# Altium schematic symbol library Schlib2.SchLib: 172 symbols
Pins are listed as number, name and electrical type; pins without a type are passive.

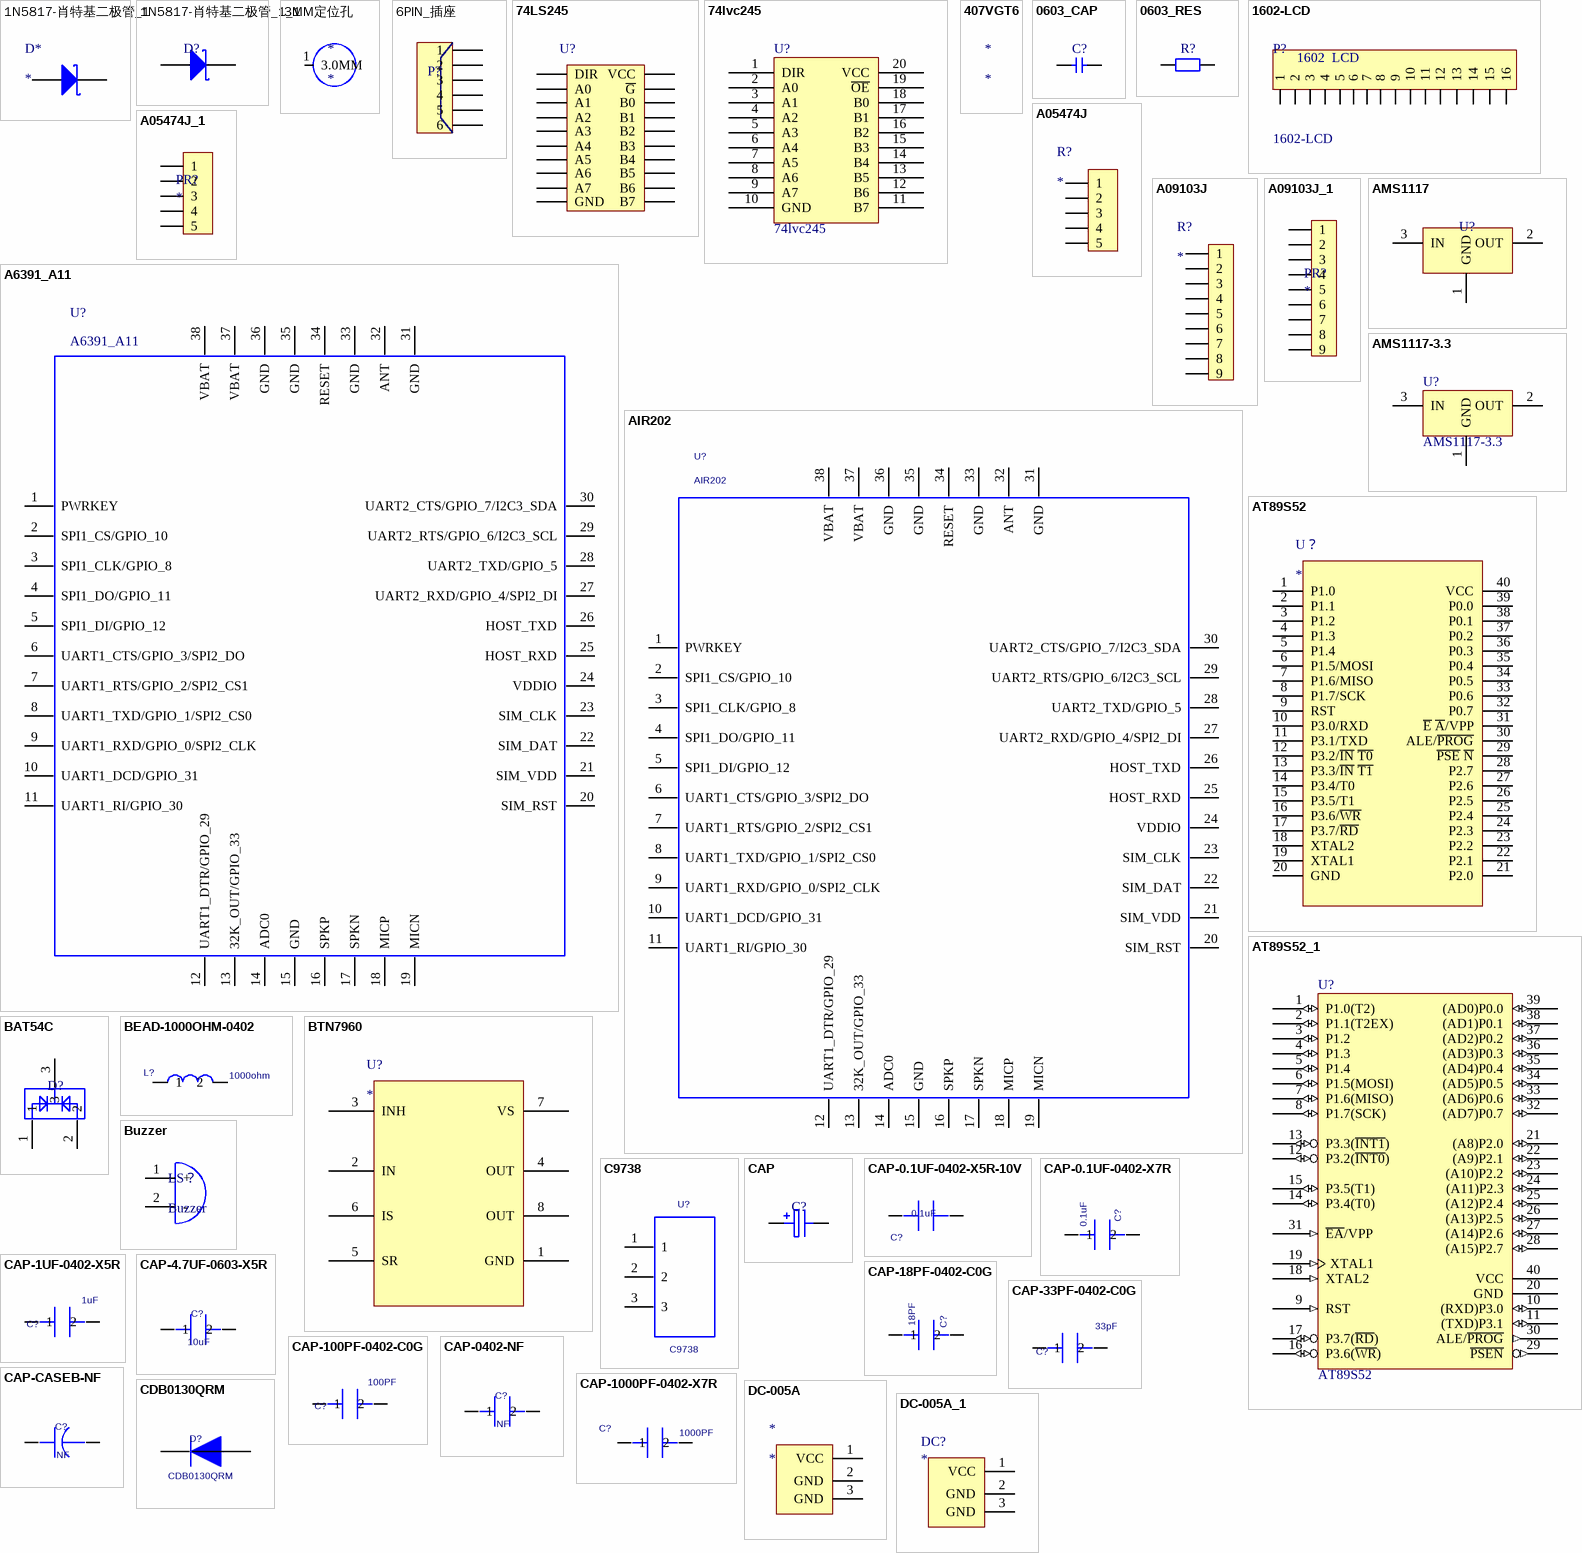
[diagram p0: symbols 1N5817-肖特基二极管_1 to DC-005A_1]

## 1N5817-肖特基二极管_1
designator D*
footprint 1N5817-肖特基二极管
footprint 3.2X1.6X1.1 (SMT LED; 2 Flat Leads)
footprint SOD123
pins: 1 A, 2 K

## 1N5817-肖特基二极管_1_1
designator D?, comment 1N5817  (value not drawn)
肖特基二极管
footprint 1N5817-肖特基二极管
pins: 1 A, 2 K

## 3MM定位孔
designator *
footprint 3MM
pins: 1 3.0MM

## 6PIN_插座
designator P?  (value not drawn)
footprint 6PIN_插座
pins: 1, 2, 3, 4, 5, 6

## 74LS245
designator U?  (value not drawn)
pins: 1 DIR, 2 A0, 3 A1, 4 A2, 5 A3, 6 A4, 7 A5, 8 A6, 9 A7, 10 GND, 11 B7, 12 B6, 13 B5, 14 B4, 15 B3, 16 B2, 17 B1, 18 B0, 19 ~{G}, 20 VCC

## 74lvc245
designator U?
8位5伏转3.3伏电平转换芯片
footprint 74LVC245 TSSOP
pins: 1 DIR, 2 A0, 3 A1, 4 A2, 5 A3, 6 A4, 7 A5, 8 A6, 9 A7, 10 GND, 11 B7, 12 B6, 13 B5, 14 B4, 15 B3, 16 B2, 17 B1, 18 B0, 19 ~{OE}, 20 VCC

## 407VGT6
designator *

## 0603_CAP
designator C?
0603
footprint 0603
pins: 1, 2

## 0603_RES
designator R?  (value not drawn)
footprint 0603
pins: 1, 2

## 1602-LCD
designator P?
Header, 16-Pin
footprint 1602-LCD (Connector; Header; 7 Position)
pins: 1, 2, 3, 4, 5, 6, 7, 8, 9, 10, 11, 12, 13, 14, 15, 16
text: 1602  LCD

## A05474J
designator R?
footprint A05474J
pins: 1, 2, 3, 4, 5

## A05474J_1
designator PR?
footprint A05474J
pins: 1, 2, 3, 4, 5

## A6391_A11
designator U?
202芯片; Geometry.Height: 2.3 MM; PCB DECAL: A6391_A11
footprint A6391_A11
pins: 1 PWRKEY, 2 SPI1_CS/GPIO_10, 3 SPI1_CLK/GPIO_8, 4 SPI1_DO/GPIO_11, 5 SPI1_DI/GPIO_12, 6 UART1_CTS/GPIO_3/SPI2_DO, 7 UART1_RTS/GPIO_2/SPI2_CS1, 8 UART1_TXD/GPIO_1/SPI2_CS0, 9 UART1_RXD/GPIO_0/SPI2_CLK, 10 UART1_DCD/GPIO_31, 11 UART1_RI/GPIO_30, 12 UART1_DTR/GPIO_29, 13 32K_OUT/GPIO_33, 14 ADC0, 15 GND, 16 SPKP, 17 SPKN, 18 MICP, 19 MICN, 20 SIM_RST, 21 SIM_VDD, 22 SIM_DAT, 23 SIM_CLK, 24 VDDIO, 25 HOST_RXD, 26 HOST_TXD, 27 UART2_RXD/GPIO_4/SPI2_DI, 28 UART2_TXD/GPIO_5, 29 UART2_RTS/GPIO_6/I2C3_SCL, 30 UART2_CTS/GPIO_7/I2C3_SDA, 31 GND, 32 ANT, 33 GND, 34 RESET, 35 GND, 36 GND, 37 VBAT, 38 VBAT, 39 GND (power) hidden to GND, 40 GND (power) hidden to GND, 41 GND (power) hidden to GND

## A09103J
designator R?
footprint A09103J
pins: 1, 2, 3, 4, 5, 6, 7, 8, 9

## A09103J_1
designator PR?
footprint A09103J
pins: 1, 2, 3, 4, 5, 6, 7, 8, 9

## AIR202
designator U?
Geometry.Height: 2.3 MM; PCB DECAL: A6391_A11
footprint A6391_A11
pins: 1 PWRKEY, 2 SPI1_CS/GPIO_10, 3 SPI1_CLK/GPIO_8, 4 SPI1_DO/GPIO_11, 5 SPI1_DI/GPIO_12, 6 UART1_CTS/GPIO_3/SPI2_DO, 7 UART1_RTS/GPIO_2/SPI2_CS1, 8 UART1_TXD/GPIO_1/SPI2_CS0, 9 UART1_RXD/GPIO_0/SPI2_CLK, 10 UART1_DCD/GPIO_31, 11 UART1_RI/GPIO_30, 12 UART1_DTR/GPIO_29, 13 32K_OUT/GPIO_33, 14 ADC0, 15 GND, 16 SPKP, 17 SPKN, 18 MICP, 19 MICN, 20 SIM_RST, 21 SIM_VDD, 22 SIM_DAT, 23 SIM_CLK, 24 VDDIO, 25 HOST_RXD, 26 HOST_TXD, 27 UART2_RXD/GPIO_4/SPI2_DI, 28 UART2_TXD/GPIO_5, 29 UART2_RTS/GPIO_6/I2C3_SCL, 30 UART2_CTS/GPIO_7/I2C3_SDA, 31 GND, 32 ANT, 33 GND, 34 RESET, 35 GND, 36 GND, 37 VBAT, 38 VBAT, 39 GND (power) hidden to GND, 40 GND (power) hidden to GND, 41 GND (power) hidden to GND

## AMS1117
designator U?  (value not drawn)
footprint AMS1117
pins: 1 GND (power), 2 OUT (power), 3 IN (power)

## AMS1117-3.3
designator U?
800mA and 1A Low Dropout Positive Regulator 2.85V, 3.3V, 5V, and Adjustable; Published: 8-Jun-2000; LatestRevisionDate: 17-Jul-2002; LatestRevisionNote: Re-released for DXP Platform.; DatasheetVersion: Sep-1997; PackageVersion: revC; PackageReference: ZZ311; Publisher: Altium Limited; PackageDescription: SOT-223/SC-73; 4 Leads; Body 6.7 x 7.3 mm, inc. leads (LxW max); ComponentLink1Description: Manufacturer Link; ComponentLink1URL: http://www.ti.com/; ComponentLink2Description: Datasheet; ComponentLink2URL: http://www-s.ti.com/sc/ds/REG1117.pdf
footprint ZZ311 (SOT-223/SC-73; 4 Leads; Body 6.7 x 7.3 mm, inc. leads (LxW max))
pins: 1 GND (power), 2 OUT (power), 3 IN (power)

## AT89S52
designator U？
footprint AT89S52
pins: 1 P1.0, 2 P1.1, 3 P1.2, 4 P1.3, 5 P1.4, 6 P1.5/MOSI, 7 P1.6/MISO, 8 P1.7/SCK, 9 RST, 10 P3.0/RXD, 11 P3.1/TXD, 12 P3.2/~{IN} ~{T0}, 13 P3.3/~{IN} ~{T1}, 14 P3.4/T0, 15 P3.5/T1, 16 P3.6/~{WR}, 17 P3.7/~{RD}, 18 XTAL2, 19 XTAL1, 20 GND (power), 21 P2.0, 22 P2.1, 23 P2.2, 24 P2.3, 25 P2.4, 26 P2.5, 27 P2.6, 28 P2.7, 29 ~{PSE} ~{N}, 30 ALE/~{PROG}, 31 ~{E} ~{A}/VPP, 32 P0.7, 33 P0.6, 34 P0.5, 35 P0.4, 36 P0.3, 37 P0.2, 38 P0.1, 39 P0.0, 40 VCC (power)

## AT89S52_1
designator U?, comment AT89S52
8-Bit Microcontroller with 8K ISP Flash ROM
footprint DIP-40
footprint TQFP80P1200X1200X120-44N (TQFP, 44-Leads, Body 10.00x10.00mm, Pitch 0.80mm, IPC Medium Density)
pins: 1 P1.0(T2) (io), 2 P1.1(T2EX) (io), 3 P1.2 (io), 4 P1.3 (io), 5 P1.4 (io), 6 P1.5(MOSI) (io), 7 P1.6(MISO) (io), 8 P1.7(SCK) (io), 9 RST (in), 10 (RXD)P3.0 (io), 11 (TXD)P3.1 (io), 12 P3.2(~{INT0}) (io), 13 P3.3(~{INT1}) (io), 14 P3.4(T0) (io), 15 P3.5(T1) (io), 16 P3.6(~{WR}) (io), 17 P3.7(~{RD}) (io), 18 XTAL2 (in), 19 XTAL1 (in), 20 GND (power), 21 (A8)P2.0 (io), 22 (A9)P2.1 (io), 23 (A10)P2.2 (io), 24 (A11)P2.3 (io), 25 (A12)P2.4 (io), 26 (A13)P2.5 (io), 27 (A14)P2.6 (io), 28 (A15)P2.7 (io), 29 ~{PSEN} (out), 30 ALE/~{PROG} (out), 31 ~{EA}/VPP (in), 32 (AD7)P0.7 (io), 33 (AD6)P0.6 (io), 34 (AD5)P0.5 (io), 35 (AD4)P0.4 (io), 36 (AD3)P0.3 (io), 37 (AD2)P0.2 (io), 38 (AD1)P0.1 (io), 39 (AD0)P0.0 (io), 40 VCC (power)

## BAT54C
designator D?  (value not drawn)
pins: 1, 2, 3

## BEAD-1000OHM-0402
designator L?  value 1000ohm  (hidden comment: BEAD-1000OHM-0402)
Bead;1000ohm;250mA;0402;0.6mm;ROHS; Manufacture 1: Murata;Taiyo Yuden;Chilisin(奇力新)();; Manufacture 1 P/N: BLM15HD102SN1;BK1005HS102-T;SBJ100505T-102Y-N; Geometry.Height: 0.65mm; Serial Number: 80334000002; PCB DECAL: SL0402
footprint SL0402
pins: 1, 2

## BTN7960
designator U?
footprint BTN7960
footprint BTN7960
pins: 1 GND, 2 IN, 3 INH, 4 OUT, 5 SR, 6 IS, 7 VS, 8 OUT

## Buzzer
designator LS？
footprint Buzzer
footprint FMQ
pins: 1 +, 2 -

## C9738
designator U?
Geometry.Height: 11 mm; PCB DECAL: C9738
footprint C9738
pins: 1, 2, 3

## CAP
designator C?  (value not drawn)
footprint CAP_T_C
footprint CAP_6.3*6.3
pins: 1, 2 E

## CAP-0.1UF-0402-X5R-10V
designator C?  value 0.1uF  (hidden comment: CAP-0.1UF-0402-X5R-10V)
CAP CER X5R/X7R;0.1uF;+/-10%;10V;0402;0.5mm;ROHS; Manufacture 1 P/N: GRM155R61A104K****;GRM155R71A104K****;CC0402KRX5R6BB104;0402X104K100CT;C0402X5R104K100N*; Manufacture 1: Murata;Yageo;Walsin;Eyang; PCB DECAL: SC0402; Serial Number: 80214720001; Geometry.Height: 0.55mm; Tolerance: +/-10%
footprint SC0402
pins: 1, 2

## CAP-0.1UF-0402-X7R
designator C?  value 0.1uF  (hidden comment: CAP-0.1UF-0402-X7R)
CAP CER X7R;0.1uF;+/-10%;16V;0402;0.5mm;ROHS; Manufacture 1: MURATA;Walsin;Yageo;Eyang;; Manufacture 1 P/N: GRM155R71C104K****;0402X104K160CT;CC0402KRX7R7BB104;C0402X5R104K160N*; Geometry.Height: 0.55mm; Serial Number: 80214730006; PCB DECAL: SC0402; Tolerance: +/-10%
footprint SC0402
pins: 1, 2

## CAP-1UF-0402-X5R
designator C?  value 1uF  (hidden comment: CAP-1UF-0402-X5R)
CAP CER X5R;1uF;+/-10%;6.3V;0402;0.5mm;ROHS; Manufacture 1 P/N: GRM155R60J105K****;CC0402KRX5R5BB105;C1005X5R0J105KT;JMK105BJ105KV-F;ECJ0EB0J105K;0402X105K6R3CT;CL05A105KQ5NNNC; Manufacture 1: Murata;Yageo;TDK;Taiyo Yuden;Panasonic;Walsin;Samsung; Serial Number: 80214710001; Geometry.Height: 0.55mm; PCB DECAL: SC0402; Tolerance: +/-10%
footprint SC0402
pins: 1, 2

## CAP-4.7UF-0603-X5R
designator C?  value 10uF  (hidden comment: CAP-4.7UF-0603-X5R)
CAP CER X5R;4.7uF;+/-10%;6.3V;0603;0.8mm;ROHS; Manufacture 1: Murata;TDK;Yageo;Taiyo Yuden;Panasonic;Kyocera;Samsung;; Manufacture 1 P/N: GRM188R60J475K****;C1608X5R0J475K;CC0603KRX5R5BB475;JMK107BJ475KA-T;ECJ1VB0J475K;CV105X5R475K06ATCL10A475KQ8NNNC;; Geometry.Height: 0.95mm; Serial Number: 80216710002; PCB DECAL: SC0603; Tolerance: +/-10%
footprint SC0603
pins: 1, 2

## CAP-18PF-0402-C0G
designator C?  value 18PF  (hidden comment: CAP-18PF-0402-C0G)
CAP CER C0G;18PF;+/-5%;50V;0402;0.5mm;ROHS; Manufacture 1: MURATA;Yageo;Eyang; Manufacture 1 P/N: GRM1555C1H180J****;CC0402JRNPO9BN180;C0402C0G180J500N*; Geometry.Height: 0.55mm; Serial Number: 80214650006; PCB DECAL: SC0402; Tolerance: +/-5%
footprint SC0402
pins: 1, 2

## CAP-33PF-0402-C0G
designator C?  value 33pF  (hidden comment: CAP-33PF-0402-C0G)
CAP CER C0G;33PF;+/-5%;50V;0402;0.5mm;ROHS; Manufacture 1: MURATA;Yageo;Eyang; Manufacture 1 P/N: GRM1555C1H330J****;CC0402JRNPO9BN330;C0402C0G330J500N*; Geometry.Height: 0.55mm; Serial Number: 80214650008; PCB DECAL: SC0402; Tolerance: +/-5%
footprint SC0402
pins: 1, 2

## CAP-100PF-0402-C0G
designator C?  value 100PF  (hidden comment: CAP-100PF-0402-C0G)
CAP CER C0G;100PF;+/-5%;50V;0402;0.5mm;ROHS; Manufacture 1: MURATA;TDK;Yageo;Walsin;Eyang; Manufacture 1 P/N: GRM1555C1H101J****;C1005C0G1H101J;CC0402JRNP09BN101;0402N101J500CT;C0402C0G101J500N*; Geometry.Height: 0.55mm; Serial Number: 80214650002; PCB DECAL: SC0402; Tolerance: +/-5%
footprint SC0402
pins: 1, 2

## CAP-0402-NF
designator C?  value NF  (hidden comment: CAP-0402-NF)
NF; Geometry.Height: 0.55mm; PCB DECAL: SC0402-NF; Manufacture 1: NF; Manufacture 1 P/N: NF; Serial Number: NF
footprint SC0402-NF
pins: 1, 2

## CAP-1000PF-0402-X7R
designator C?  value 1000PF  (hidden comment: CAP-1000PF-0402-X7R)
CAP CER X7R;1000PF;+/-10%;50V;0402;0.5mm;ROHS; Manufacture 1 P/N: GRM155R71H102K****;CC0402KRX7R9BB102;0402B102K500CT;C0402X7R102K500N*; Manufacture 1: MURATA;Yageo;Walsin;Eyang; Geometry.Height: 0.55mm; Serial Number: 80214750001; PCB DECAL: SC0402; Tolerance: +/-10%
footprint SC0402
pins: 1, 2

## CAP-CASEB-NF
designator C?  value NF  (hidden comment: CAP-CASEB-NF)
NF; Geometry.Height: 1.2mm; Manufacture 1: NF; Manufacture 1 P/N: NF; Serial Number: NF; PCB DECAL: CASEB-NF
footprint CASEB-NF
pins: 1, 2

## CDB0130QRM
designator D?
Schottky Diode;20V;2.0A/0.5V;SMB;4.5*3.9*2.62mm;ROHS; Manufacture 1: Diodes; Manufacture 1 P/N: B220-13-F; Geometry.Height: 0.7mm; Serial Number: 81260000005; PCB DECAL: ESD-TVS-UM5079
footprint ESD-TVS-UM5079
pins: 1, 2

## DC-005A
designator *
footprint DC-005A
pins: 1 VCC, 2 GND, 3 GND

## DC-005A_1
designator DC?
footprint DC-005A
pins: 1 VCC, 2 GND, 3 GND

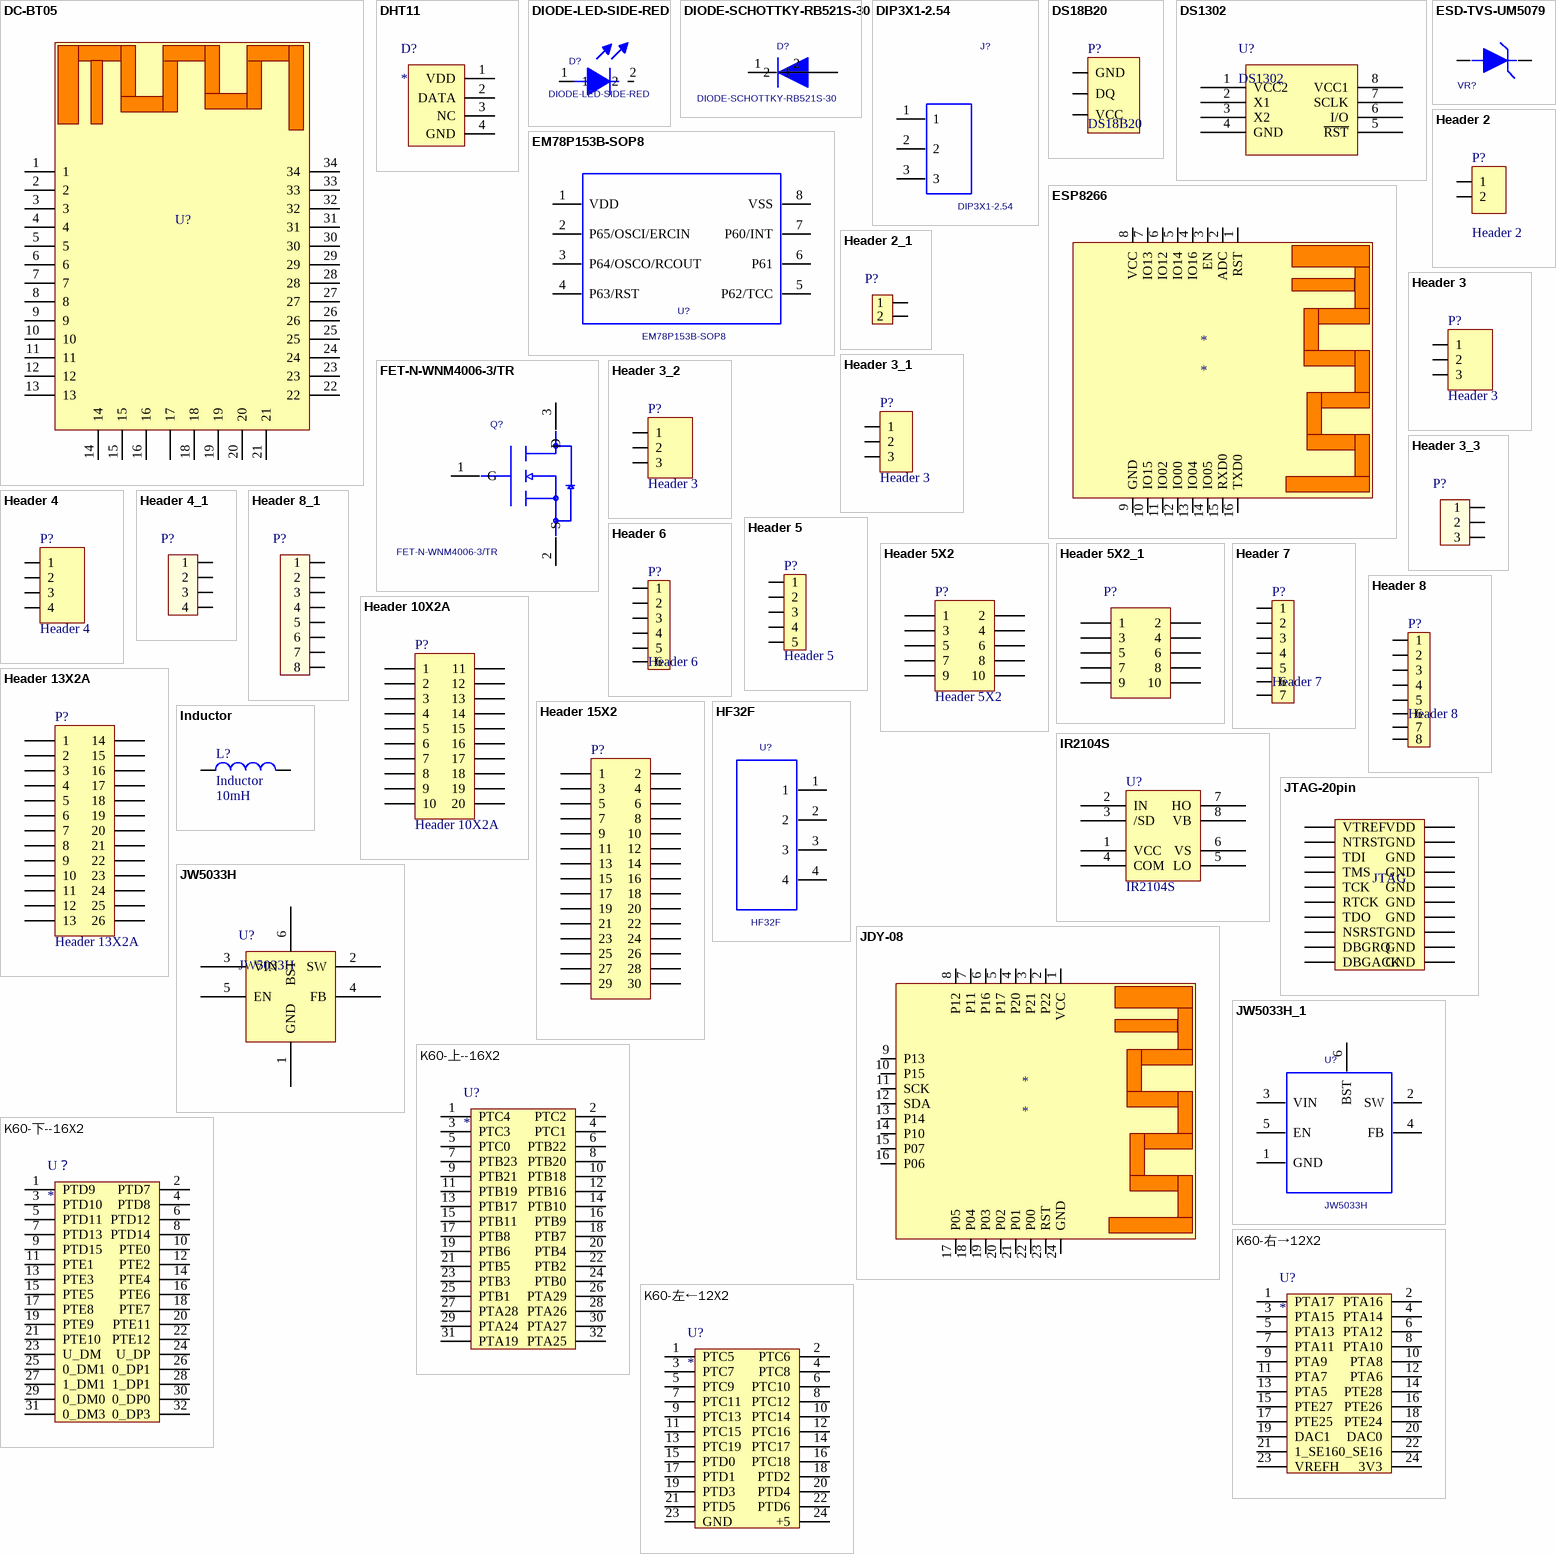
[diagram p1: symbols DC-BT05 to K60-左←12X2]

## DC-BT05
designator U?  (value not drawn)
footprint PCBComponent_1
pins: 1, 2, 3, 4, 5, 6, 7, 8, 9, 10, 11, 12, 13, 14, 15, 16, 17, 18, 19, 20, 21, 22, 23, 24, 25, 26, 27, 28, 29, 30, 31, 32, 33, 34

## DHT11
designator D?
footprint DHT11
pins: 1 VDD, 2 DATA, 3 NC, 4 GND

## DIODE-LED-SIDE-RED
designator D?
Side LED;Red;2.3V;1.7*1.1*0.7mm;ROHS; Manufacture 1 P/N: 27-21/R6C-AM2N2LY/3C; Manufacture 1: EVERLIGHT; Geometry.Height: 0.7mm; Serial Number: 81240000001; PCB DECAL: LED-27-21
footprint LED-27-21
pins: 1, 2

## DIODE-SCHOTTKY-RB521S-30
designator D?
Schottky Diode;30V;200mA/0.6V;SOD-523;0.7mm;ROHS; Manufacture 1: Panjit;WILL;KEC;Onsemi;; Manufacture 1 P/N: RB521S30T1G;KDR730E;RB521S30-2/TR;RB521S30/TR; Serial Number: 81210000004; PCB DECAL: SOD523(RB521S); Geometry.Height: 0.7mm
footprint SOD523(RB521S)
pins: 1, 2

## DIP3X1-2.54
designator J?
Geometry.Height: 2mm; PCB DECAL: DIP3X1-2.54
footprint DIP3X1-2.54
pins: 1, 2, 3

## DS18B20
designator P?
LatestRevisionDate: 17-Jul-2002; LatestRevisionNote: Re-released for DXP Platform.; Publisher: Altium Limited
pins: 1 GND, 2 DQ, 3 VCC

## DS1302
designator U?
pins: 1 VCC2, 2 X1, 3 X2, 4 GND, 5 ~{RST}, 6 I/O, 7 SCLK, 8 VCC1

## EM78P153B-SOP8
designator U?
Manufacture: ELAN; Geometry.Height: 1.75mm; PCB DECAL: EM78P153B-SOP8
footprint EM78P153B-SOP8
pins: 1 VDD, 2 P65/OSCI/ERCIN, 3 P64/OSCO/RCOUT, 4 P63/RST, 5 P62/TCC, 6 P61, 7 P60/INT, 8 VSS

## ESD-TVS-UM5079
designator VR?  (value not drawn)
TVS;7V;65pf;SOD882;ROHS; Manufacture 1: Union;韦尔;; Manufacture 1 P/N: ESD9X7V-2/TR;UM5079; Serial Number: 81121000008; Geometry.Height: 0.55mm; PCB DECAL: ESD-TVS-UM5079
footprint ESD-TVS-UM5079
pins: 1, 2

## ESP8266
designator *
footprint ESP8266
pins: 1 RST, 2 ADC, 3 EN, 4 IO16, 5 IO14, 6 IO12, 7 IO13, 8 VCC, 9 GND, 10 IO15, 11 IO02, 12 IO00, 13 IO04, 14 IO05, 15 RXD0, 16 TXD0

## FET-N-WNM4006-3/TR
designator Q?
MOSFET;N-Ch;0.25ohm;1.5A;0.8W;SOT-23;2.8*2.25*1.15mm;ROHS; Manufacture 1: Will(韦尔);; Geometry.Height: 1.15mm; Serial Number: 81221000012; PCB DECAL: SOT23-3(WNM4006); Manufacture 1 P/N: WNM4006-3/TR
footprint SOT23-3(WNM4006)
pins: 1 G, 2 S, 3 D

## Header 2
designator P?
Header; LatestRevisionDate: 17-Jul-2002; LatestRevisionNote: Re-released for DXP Platform.; Publisher: Altium Limited
footprint KF301-2P - duplicate
pins: 1, 2

## Header 2_1
designator P?, comment Header 2  (value not drawn)
DIP 2.54
footprint Header 2
pins: 1, 2

## Header 3
designator P?
Header, 3-Pin; LatestRevisionDate: 17-Jul-2002; LatestRevisionNote: Re-released for DXP Platform.; Publisher: Altium Limited
footprint 3PIN-2.54
footprint 3pin-2.54插针 (Connector; Header; 3 Position)
pins: 1, 2, 3

## Header 3_1
designator P?, comment Header 3
Header, 3-Pin; LatestRevisionDate: 17-Jul-2002; LatestRevisionNote: Re-released for DXP Platform.; Publisher: Altium Limited
footprint 3PIN-2.54
footprint 3pin-2.54插针 (Connector; Header; 3 Position)
pins: 1, 2, 3

## Header 3_2
designator P?, comment Header 3
Header, 3-Pin; LatestRevisionDate: 17-Jul-2002; LatestRevisionNote: Re-released for DXP Platform.; Publisher: Altium Limited
footprint 3PIN-2.54
footprint 3pin-2.54插针 (Connector; Header; 3 Position)
pins: 1, 2, 3

## Header 3_3
designator P?, comment Header 3  (value not drawn)
footprint Header 3
pins: 1, 2, 3

## Header 4
designator P?
Header, 4-Pin; LatestRevisionDate: 17-Jul-2002; LatestRevisionNote: Re-released for DXP Platform.; Publisher: Altium Limited
footprint 4PIN-2.54
footprint 4PIN-2.54 - Female Header
footprint 4Pinx2.54 - header
pins: 1, 2, 3, 4

## Header 4_1
designator P?, comment Header 4  (value not drawn)
footprint Header 4
pins: 1, 2, 3, 4

## Header 5
designator P?
Header, 5-Pin
footprint 5PIN-2.54A
footprint 5Pinx2.54
pins: 1, 2, 3, 4, 5

## Header 5X2
designator P?
Header, 5-Pin, Dual row; LatestRevisionDate: 17-Jul-2002; LatestRevisionNote: Re-released for DXP Platform.; Publisher: Altium Limited
footprint HDR2X5 (Connector; Header; 5x2 Position)
signal-integrity model Connector
pins: 1, 2, 3, 4, 5, 6, 7, 8, 9, 10

## Header 5X2_1
designator P?, comment Header 5X2  (value not drawn)
footprint Header 5X2
pins: 1, 2, 3, 4, 5, 6, 7, 8, 9, 10

## Header 6
designator P?
Header, 5-Pin
footprint 6PIN-2.54
footprint 6PIN-2.54A
footprint 6pin 0805
pins: 1, 2, 3, 4, 5, 6

## Header 7
designator P?
Header, 5-Pin
footprint 7PIN-2.54 (Connector; Header; 7 Position)
footprint 7PIN-2.54A
pins: 1, 2, 3, 4, 5, 6, 7

## Header 8
designator P?
Header, 5-Pin
footprint 8PIN-2.54A
pins: 1, 2, 3, 4, 5, 6, 7, 8

## Header 8_1
designator P?, comment Header 8  (value not drawn)
footprint Header 8
pins: 1, 2, 3, 4, 5, 6, 7, 8

## Header 10X2A
designator P?
Header, 10-Pin, Dual row; LatestRevisionDate: 17-Jul-2002; LatestRevisionNote: Re-released for DXP Platform.; Publisher: Altium Limited
footprint 20PIN-2.54 (Connector; Header; 10x2 Position)
pins: 1, 2, 3, 4, 5, 6, 7, 8, 9, 10, 11, 12, 13, 14, 15, 16, 17, 18, 19, 20

## Header 13X2A
designator P?
Header, 13-Pin, Dual row; LatestRevisionDate: 17-Jul-2002; LatestRevisionNote: Re-released for DXP Platform.; Publisher: Altium Limited
footprint 26pin-2.54
pins: 1, 2, 3, 4, 5, 6, 7, 8, 9, 10, 11, 12, 13, 14, 15, 16, 17, 18, 19, 20, 21, 22, 23, 24, 25, 26

## Header 15X2
designator P?
Header, 15-Pin, Dual row; LatestRevisionDate: 17-Jul-2002; LatestRevisionNote: Re-released for DXP Platform.; Publisher: Altium Limited
footprint HDR2X15 (Connector; Header; 15x2 Position)
signal-integrity model Connector
pins: 1, 2, 3, 4, 5, 6, 7, 8, 9, 10, 11, 12, 13, 14, 15, 16, 17, 18, 19, 20, 21, 22, 23, 24, 25, 26, 27, 28, 29, 30

## HF32F
designator U?
Geometry.Height: 15.3mm; PCB DECAL: HF32F
footprint HF32F
pins: 1, 2, 3, 4

## Inductor
designator L?  value 10mH
Code_IEC: 1005; Published: 8-Jun-2000; LatestRevisionDate: 17-Jul-2002; LatestRevisionNote: Re-released for DXP Platform.; PackageReference: 0402-A; Publisher: Altium Limited; Code_JEITA: 0402
footprint diangan12*12 (Magnetic-Core Inductor with Winding Polarity Marking; 2 Leads)
footprint diangan7*7
pins: 1, 2

## IR2104S
designator U?
footprint IR2104
pins: 1 VCC, 2 IN, 3 /SD, 4 COM, 5 LO, 6 VS, 7 HO, 8 VB

## JDY-08
designator *
footprint JDY_08
pins: 1 VCC, 2 P22, 3 P21, 4 P20, 5 P17, 6 P16, 7 P11, 8 P12, 9 P13, 10 P15, 11 SCK, 12 SDA, 13 P14, 14 P10, 15 P07, 16 P06, 17 P05, 18 P04, 19 P03, 20 P02, 21 P01, 22 P00, 23 RST, 24 GND

## JTAG-20pin
designator JTAG, comment JTAG  (value not drawn)
footprint 20pin
pins: 1 VTREF, 2 VDD, 3 NTRST, 4 GND, 5 TDI, 6 GND, 7 TMS, 8 GND, 9 TCK, 10 GND, 11 RTCK, 12 GND, 13 TDO, 14 GND, 15 NSRST, 16 GND, 17 DBGRQ, 18 GND, 19 DBGACK, 20 GND

## JW5033H
designator U?
footprint SOT23-6
pins: 1 GND, 2 SW, 3 VIN, 4 FB, 5 EN, 6 BST

## JW5033H_1
designator U?, comment JW5033H
Geometry.Height: 1.1mm; PCB DECAL: JW5033S
footprint JW5033S
pins: 1 GND, 2 SW, 3 VIN, 4 FB, 5 EN, 6 BST

## K60-上--16X2
designator U?
footprint K60-上--16X2
pins: 1 PTC4, 2 PTC2, 3 PTC3, 4 PTC1, 5 PTC0, 6 PTB22, 7 PTB23, 8 PTB20, 9 PTB21, 10 PTB18, 11 PTB19, 12 PTB16, 13 PTB17, 14 PTB10, 15 PTB11, 16 PTB9, 17 PTB8, 18 PTB7, 19 PTB6, 20 PTB4, 21 PTB5, 22 PTB2, 23 PTB3, 24 PTB0, 25 PTB1, 26 PTA29, 27 PTA28, 28 PTA26, 29 PTA24, 30 PTA27, 31 PTA19, 32 PTA25

## K60-下--16X2
designator U？
footprint K60-下--16X2
pins: 1 PTD9, 2 PTD7, 3 PTD10, 4 PTD8, 5 PTD11, 6 PTD12, 7 PTD13, 8 PTD14, 9 PTD15, 10 PTE0, 11 PTE1, 12 PTE2, 13 PTE3, 14 PTE4, 15 PTE5, 16 PTE6, 17 PTE8, 18 PTE7, 19 PTE9, 20 PTE11, 21 PTE10, 22 PTE12, 23 U_DM, 24 U_DP, 25 0_DM1, 26 0_DP1, 27 1_DM1, 28 1_DP1, 29 0_DM0, 30 0_DP0, 31 0_DM3, 32 0_DP3

## K60-右→12X2
designator U?
footprint K60-右→12X2
pins: 1 PTA17, 2 PTA16, 3 PTA15, 4 PTA14, 5 PTA13, 6 PTA12, 7 PTA11, 8 PTA10, 9 PTA9, 10 PTA8, 11 PTA7, 12 PTA6, 13 PTA5, 14 PTE28, 15 PTE27, 16 PTE26, 17 PTE25, 18 PTE24, 19 DAC1, 20 DAC0, 21 1_SE16, 22 0_SE16, 23 VREFH, 24 3V3

## K60-左←12X2
designator U?
footprint K60-左←12X2
pins: 1 PTC5, 2 PTC6, 3 PTC7, 4 PTC8, 5 PTC9, 6 PTC10, 7 PTC11, 8 PTC12, 9 PTC13, 10 PTC14, 11 PTC15, 12 PTC16, 13 PTC19, 14 PTC17, 15 PTD0, 16 PTC18, 17 PTD1, 18 PTD2, 19 PTD3, 20 PTD4, 21 PTD5, 22 PTD6, 23 GND, 24 +5

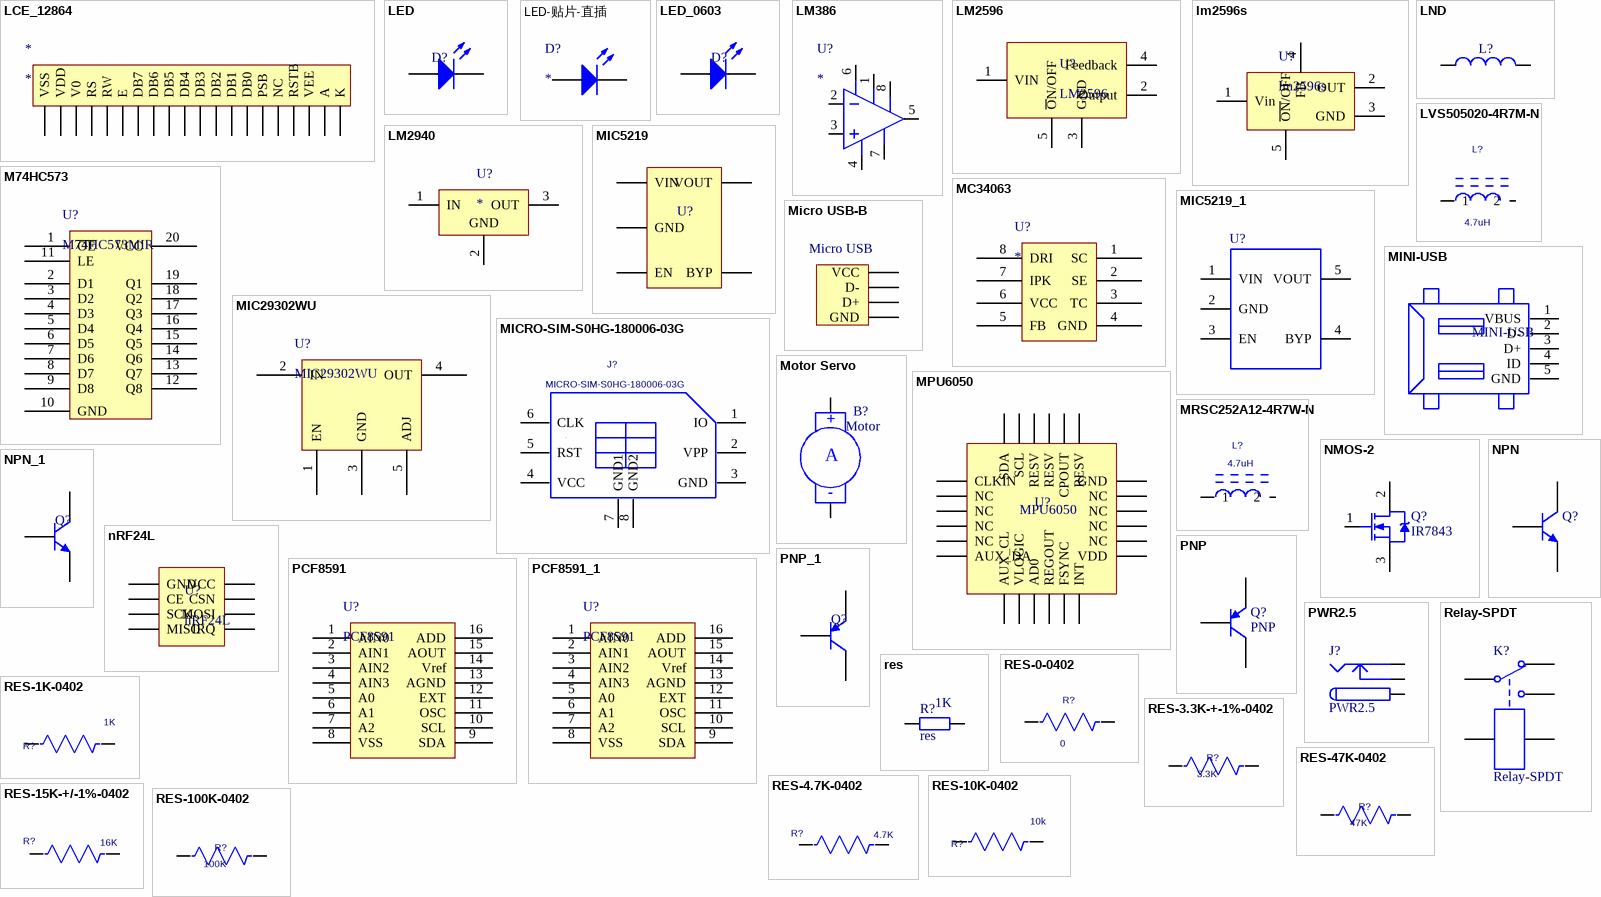
[diagram p2: symbols LCE_12864 to RES-100K-0402]

## LCE_12864
designator *
footprint LED_12864
pins: 1 VSS, 2 VDD, 3 V0, 4 RS, 5 RW, 6 E, 7 DB7, 8 DB6, 9 DB5, 10 DB4, 11 DB3, 12 DB2, 13 DB1, 14 DB0, 15 PSB, 16 NC, 17 RSTB, 18 VEE, 19 A, 20 K

## LED
designator D?  (value not drawn)
5mm
footprint LED-直插5mm (5mm)
footprint LED-RED
footprint LED-GRE
footprint LED-0805标准
pins: 1 A, 2 K

## LED-贴片-直插
designator D?
footprint LED_0603
footprint LED_0805
footprint LED-0805标准 (1/8W)
footprint LED-直插 5mm 蓝
footprint LED-直插 3mm 蓝
footprint LED-直插3mm  绿
footprint LED-直插 3mm 红
footprint LED-直插3mm  黄
pins: 1 A, 2 K

## LED_0603
designator D?  (value not drawn)
footprint LED_0603
pins: 1 A, 2 K

## LM386
designator U?
footprint SOP8LM386
pins: 1 Av, 2 IN-, 3 IN+, 4 GND, 5 OUT, 6 Vs, 7 DET, 8 Av

## LM2596
designator U?
footprint LM2596
pins: 1 VIN, 2 Output, 3 GND, 4 Feedback, 5 ~{O}N/OFF

## lm2596s
designator U?
footprint TO-263-5 (TO, 6-Pads, Body 7.55x8.56mm (max), IPC Medium Density)
pins: 1 Vin, 2 OUT, 3 GND, 4 FB, 5 ~{ON}/OFF

## LM2940
designator U?
footprint LM2940 TO-263-3
pins: 1 IN (power), 2 GND (power), 3 OUT (power)

## LND
designator L?
footprint 3225
footprint CD53
pins: 1, 2

## LVS505020-4R7M-N
designator L?  value 4.7uH  (hidden comment: LVS505020-4R7M-N)
Manufacture 1: Chilisin(奇力新); Geometry.Height: 2.2 mm; PCB DECAL: LVS505020-4R7M-N
footprint LVS505020-4R7M-N
pins: 1, 2

## M74HC573
designator U?, comment M74HC573MIR
pins: 1 ~{OE}, 2 D1, 3 D2, 4 D3, 5 D4, 6 D5, 7 D6, 8 D7, 9 D8, 10 GND, 11 LE, 12 Q8, 13 Q7, 14 Q6, 15 Q5, 16 Q4, 17 Q3, 18 Q2, 19 Q1, 20 VCC

## MC34063
designator U?
footprint MC34063
pins: 1 SC, 2 SE, 3 TC, 4 GND, 5 FB, 6 VCC, 7 IPK, 8 DRI

## MIC5219
designator U?  (value not drawn)
footprint SOT95P280X130-5M (SOT23, 5-Leads, Body 2.90x2.80mm, Pitch 0.95mm, IPC Low Density)
pins: 1 VIN, 2 GND, 3 EN, 4 BYP, 5 VOUT

## MIC5219_1
designator U?, comment MIC5219  (value not drawn)
LDO
footprint SOT23-5 - duplicate
pins: 1 VIN, 2 GND, 3 EN, 4 BYP, 5 VOUT

## MIC29302WU
designator U?
pins: 1 EN, 2 IN, 3 GND, 4 OUT, 5 ADJ

## Micro USB-B
designator Micro USB  (value not drawn)
footprint Micro USB
pins: 1 VCC, 2 D-, 3 D+, 4 GND

## MICRO-SIM-S0HG-180006-03G
designator J?
1.8H掀盖 Micro SIM卡座;16.3*14.66*1.8mm; Manufacture 1: 深圳市精睿兴业科技有限公司; Geometry.Height: 1.8mm; Manufacture 1 P/N: S0HG-180006-03G; PCB DECAL: S0HG-180006-03G
footprint S0HG-180006-03G
pins: 1 IO, 2 VPP, 3 GND, 4 VCC, 5 RST, 6 CLK, 7 GND1, 8 GND2

## MINI-USB
designator MINI-USB  (value not drawn)
footprint MINI-USB
pins: 1 VBUS, 2 D-, 3 D+, 4 ID, 5 GND

## Motor Servo
designator B?, comment Motor
Servo Motor
footprint KF301-2P - duplicate
pins: 1 +, 2 -
text: A

## MPU6050
designator U?  (value not drawn)
footprint QFN50P400X400X95_HS-25M (QFN, 24-Leads, Body 4.00x4.00mm, Pitch 0.50mm, Thermal Pad 2.60x2.70mm, IPC Low Density)
pins: 1 CLKIN, 2 NC, 3 NC, 4 NC, 5 NC, 6 AUX_DA, 7 AUX_CL, 8 VLOGIC, 9 AD0, 10 REGOUT, 11 FSYNC, 12 INT, 13 VDD, 14 NC, 15 NC, 16 NC, 17 NC, 18 GND, 19 RESV, 20 CPOUT, 21 RESV, 22 RESV, 23 SCL, 24 SDA

## MRSC252A12-4R7W-N
designator L?  value 4.7uH  (hidden comment: MRSC252A12-4R7W-N)
Manufacture 1: Chilisin(奇力新); Geometry.Height: 1.2 mm; PCB DECAL: MRSC252A12-4R7W-N
footprint MRSC252A12-4R7W-N
pins: 1, 2

## NMOS-2
designator Q?, comment IR7843
N-Channel Power MOSFET; Note: Pin 2 is electrically connected to pin 4.; Published: 8-Jun-2000; LatestRevisionDate: 17-Jul-2002; LatestRevisionNote: Re-released for DXP Platform.; DatasheetVersion: PD-9.814; PackageVersion: Feb-1997; PackageReference: TO-220AB; Publisher: Altium Limited; PackageDescription: TO, Thru-Hole, Vertical, Heatsink Mounted; 3 In-Line Leads; Pitch 2.54 mm; ComponentLink1Description: Manufacturer Link; ComponentLink1URL: http://www.irf.com/
footprint LR7843
pins: 1 G, 2 D, 3 S

## NPN
designator Q?
NPN Bipolar Transistor; Published: 8-Jun-2000; LatestRevisionDate: 17-Jul-2002; LatestRevisionNote: Re-released for DXP Platform.; PackageReference: TO-226-AA; Publisher: Altium Limited; PackageDescription: TO, Flat Index; 3 In-Line, Axial Leads; Body Dia. 4.8mm; Leads 0.55 x 0.51 mm (max); Code_JEDEC: TO-226-AA
footprint TO-226 - NPN (TO, Flat Index; 3 In-Line, Axial Leads; Body Dia. 4.8mm; Leads 0.55 x 0.51 mm (max))
pins: 1 E, 2 B, 3 C

## NPN_1
designator Q?, comment NPN  (value not drawn)
NPN三极管
footprint 29-04 (TO, Flat Index; 3 In-Line, Axial Leads; Body Dia. 4.8mm; Leads 0.48 x 0.5 mm (max))
footprint SOT95P230X110-3N (SOT23, 3-Leads, Body 2.92x2.30mm, Pitch 0.95mm, IPC Medium Density)
pins: 1 B, 2 E, 3 C

## nRF24L
designator U?
footprint nRF24L
pins: 1 GND, 2 VCC, 3 CE, 4 CSN, 5 SCK, 6 MOSI, 7 MISO, 8 IRQ

## PCF8591
designator U?
pins: 1 AIN0, 2 AIN1, 3 AIN2, 4 AIN3, 5 A0, 6 A1, 7 A2, 8 VSS, 9 SDA, 10 SCL, 11 OSC, 12 EXT, 13 AGND, 14 Vref, 15 AOUT, 16 ADD

## PCF8591_1
designator U?, comment PCF8591
footprint SOP16
pins: 1 AIN0, 2 AIN1, 3 AIN2, 4 AIN3, 5 A0, 6 A1, 7 A2, 8 VSS, 9 SDA, 10 SCL, 11 OSC, 12 EXT, 13 AGND, 14 Vref, 15 AOUT, 16 ADD

## PNP
designator Q?
PNP Bipolar Transistor; Published: 8-Jun-2000; LatestRevisionDate: 29-May-2009; LatestRevisionNote: IPC-7351 Footprint Added.; PackageVersion: Aug-1999; PackageReference: SOT-23B; Publisher: Altium Limited; PackageDescription: 3-Pin SOT-23 Package 0.95 mm Pitch, 2.4 mm Lead Span
footprint TO-226 - PNP (TO, Flat Index; 3 In-Line, Axial Leads; Body Dia. 4.8mm; Leads 0.55 x 0.51 mm (max))
pins: 1 E, 2 B, 3 C

## PNP_1
designator Q?, comment PNP  (value not drawn)
PNP三极管
footprint 29-04 (TO, Flat Index; 3 In-Line, Axial Leads; Body Dia. 4.8mm; Leads 0.48 x 0.5 mm (max))
footprint SOT95P230X110-3N (SOT23, 3-Leads, Body 2.92x2.30mm, Pitch 0.95mm, IPC Medium Density)
pins: 1 B, 2 E, 3

## PWR2.5
designator J?
Low Voltage Power Supply Connector; Published: 17-Dec-2003; DatasheetDocument: 09-May-2002; Publisher: Altium Limited; ComponentLink1Description: Manufacturer Link; ComponentLink1URL: http://domino.kycon.com/internet/Products.html
footprint DC-005A
pins: 1, 2, 3

## Relay-SPDT
designator K?
Single-Pole Dual-Throw Relay; Published: 24-Mar-1999; LatestRevisionDate: 17-Jul-2002; LatestRevisionNote: Re-released for DXP Platform.; PackageReference: MODULE5B; Publisher: Altium Limited
footprint SRD-05VDC-SL-C - duplicate
pins: 1, 2, 3, 4, 5

## res
designator R?  value 1K
Resistor; Published: 8-Jun-2000; LatestRevisionDate: 17-Jul-2002; LatestRevisionNote: Re-released for DXP Platform.; PackageReference: AXIAL-0.4; Publisher: Altium Limited; PackageDescription: Axial Device, Thru-Hole; 2 Leads; 0.4 in Pin Spacing
footprint Res40-Axial 0.25W-1K (Connector; Header; 3 Position)
footprint Res40-Axial 0.25W-10k (Connector; Header; 3 Position)
footprint Res40-Axial 0.25W-100R (Connector; Header; 3 Position)
footprint Res40-Axial 0.25W-470R (Connector; Header; 3 Position)
footprint Res40-Axial 0.25W-220R (Connector; Header; 3 Position)
pins: 1, 2

## RES-0-0402
designator R?  value 0  (hidden comment: RES-0-0402)
RES FILM;0;1A;0402;0.4mm;ROHS; Manufacture 1: YAGEO; Manufacture 1 P/N: RC0402JR-070RL; Serial Number: 80114640001; PCB DECAL: SR0402; Geometry.Height: 0.4mm
footprint SR0402
pins: 1, 2

## RES-1K-0402
designator R?  value 1K  (hidden comment: RES-1K-0402)
RES FILM;1K;+/-5%;1/16W;0402;0.4mm;ROHS; Manufacture 1 P/N: RC0402JR-071KL;WR04X102_JTL; Manufacture 1: YAGEO;Walsin; Geometry.Height: 0.40mm; Serial Number: 80114640003; PCB DECAL: SR0402; Tolerance: +/-5%
footprint SR0402
pins: 1, 2

## RES-3.3K-+-1%-0402
designator R?  value 3.3K  (hidden comment: RES-3.3K-+-1%-0402)
RES FILM;3.3K;+/-1%;1/16W;0402;0.4mm;ROHS; Manufacture 1 P/N: RC0402FR-073K3L; Manufacture 1: Yageo; Serial Number: 80114440049; PCB DECAL: SR0402; Geometry.Height: 0.4mm; Tolerance: +/-1%
footprint SR0402
pins: 1, 2

## RES-4.7K-0402
designator R?  value 4.7K  (hidden comment: RES-4.7K-0402)
RES FILM;4.7K;+/-5%;1/16W;0402;0.4mm;ROHS; Manufacture 1: YAGEO; Manufacture 1 P/N: RC0402JR-074K7L; Serial Number: 80114640017; PCB DECAL: SR0402; Tolerance: +/-5%; Geometry.Height: 0.4mm
footprint SR0402
pins: 1, 2

## RES-10K-0402
designator R?  value 10k  (hidden comment: RES-10K-0402)
RES FILM;10K;+/-5%;1/16W;0402;0.4mm;ROHS; Manufacture 1: YAGEO;Walsin; Manufacture 1 P/N: RC0402JR-0710KL;WR04X103_JTL; Serial Number: 80114640004; PCB DECAL: SR0402; Tolerance: +/-5%; Geometry.Height: 0.4mm
footprint SR0402
pins: 1, 2

## RES-15K-+/-1%-0402
designator R?  value 16K  (hidden comment: RES-15K-+/-1%-0402)
RES FILM;15K;+/-1%;1/16W;0402;0.4mm;ROHS; Manufacture 1: YAGEO;Cyntec(乾坤);; Manufacture 1 P/N: RC0402FR-0715KL;RR0510S-153-FN;; Serial Number: 80114440002; PCB DECAL: SR0402; Geometry.Height: 0.4mm; Tolerance: +/-1%
footprint SR0402
pins: 1, 2

## RES-47K-0402
designator R?  value 47K  (hidden comment: RES-47K-0402)
RES FILM;47K;+/-5%;1/16W;0402;0.4mm;ROHS; Manufacture 1 P/N: RC0402JR-0747KL; Manufacture 1: YAGEO; Serial Number: 80114640048; PCB DECAL: SR0402; Geometry.Height: 0.4mm; Tolerance: +/-5%
footprint SR0402
pins: 1, 2

## RES-100K-0402
designator R?  value 100K  (hidden comment: RES-100K-0402)
RES FILM;100K;+/-5%;1/16W;0402;0.4mm;ROHS; Manufacture 1: YAGEO;Walsin; Manufacture 1 P/N: RC0402JR-07100KL;WR04X104_JTL;; Geometry.Height: 0.40mm; Serial Number: 80114640005; PCB DECAL: SR0402; Tolerance: +/-5%
footprint SR0402
pins: 1, 2

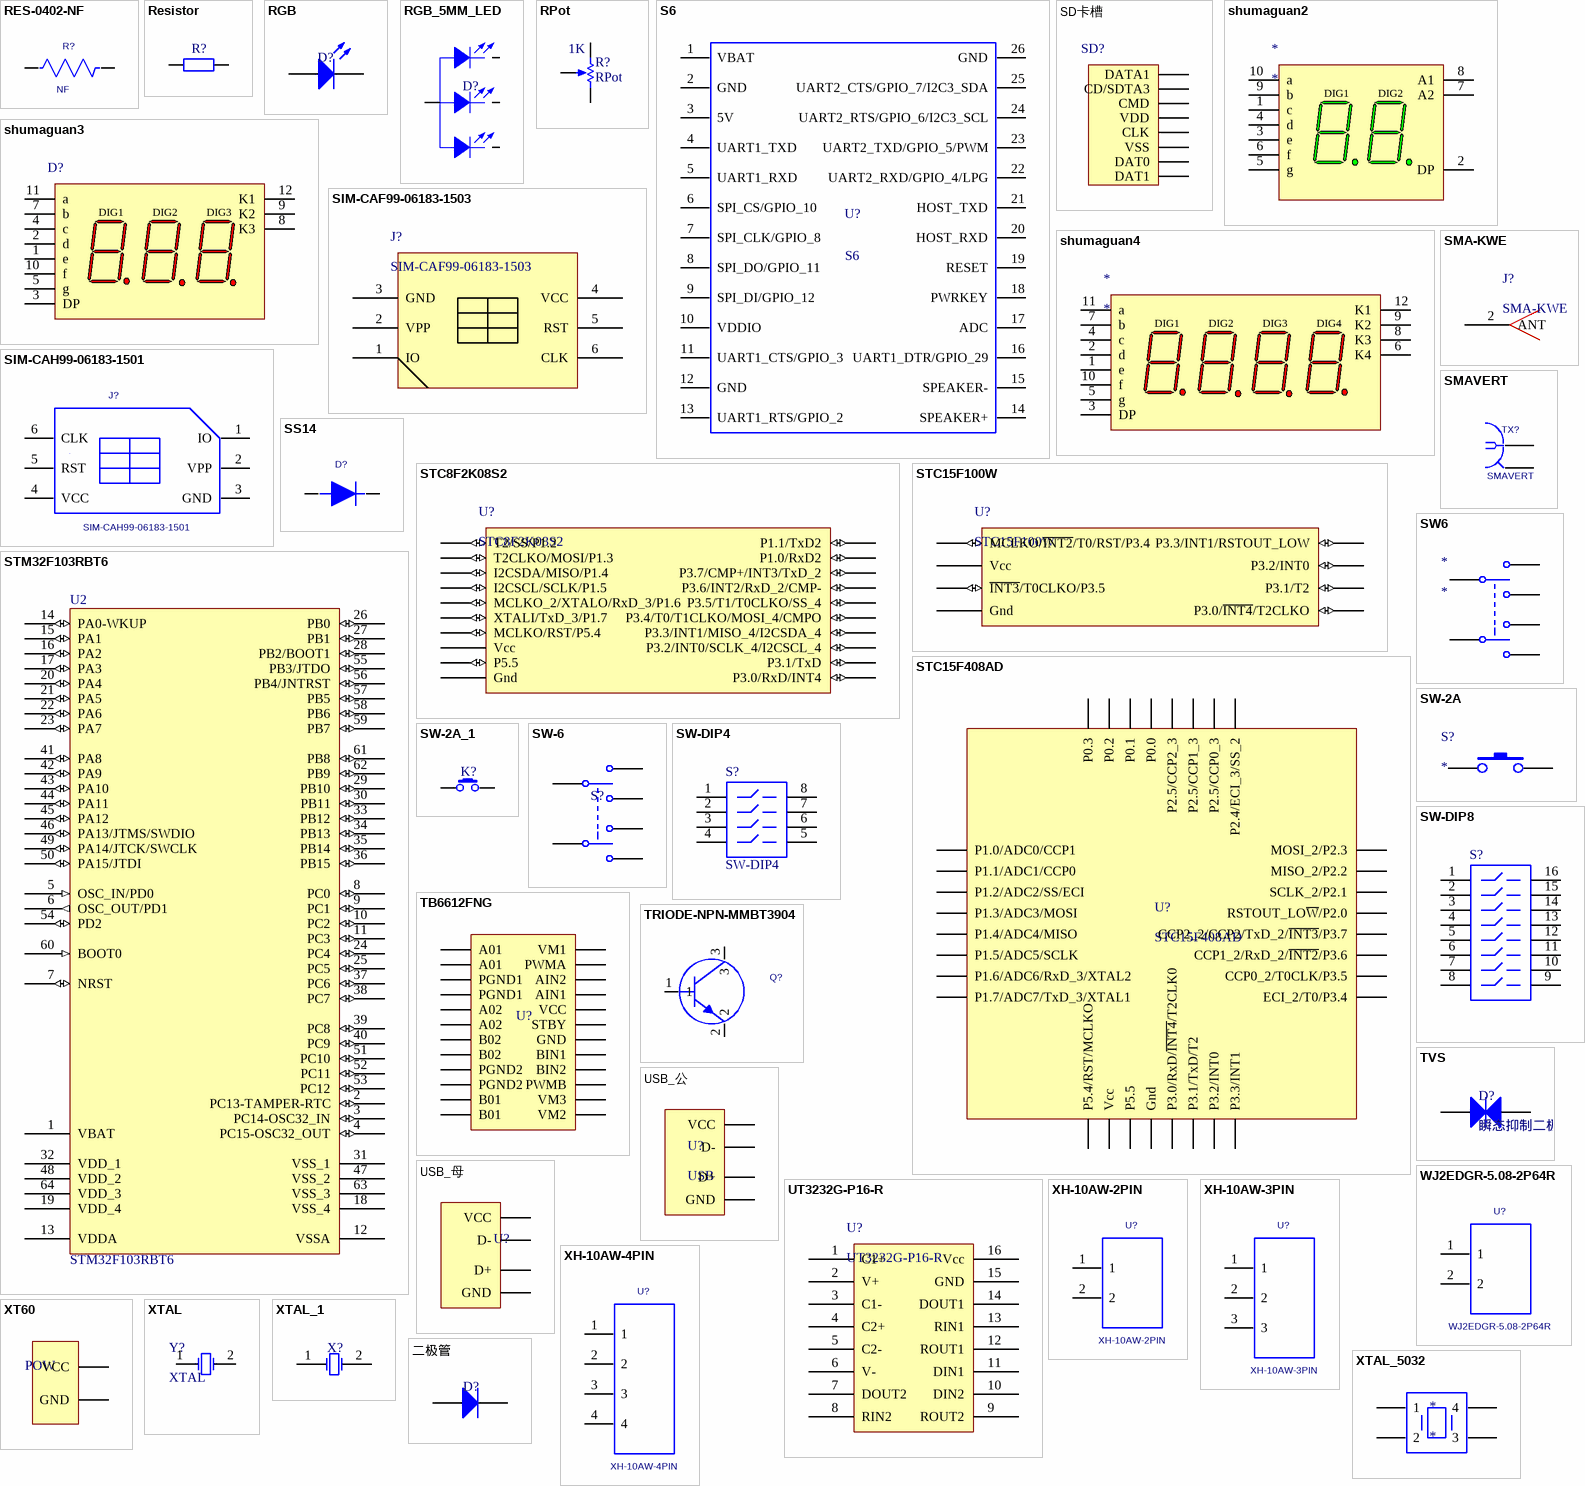
[diagram p3: symbols RES-0402-NF to 二极管]

## RES-0402-NF
designator R?  value NF  (hidden comment: RES-0402-NF)
NF; Geometry.Height: 0.4mm; Tolerance: +/-5%; PCB DECAL: SR0402-NF; Serial Number: NF; Manufacture 1 P/N: NF; Manufacture 1: NF
footprint SR0402-NF
pins: 1, 2

## Resistor
designator R?  (value not drawn)
DIP
footprint Res40-Axial 0.25W-1K
footprint RES-0.125
footprint Res0805
footprint RES1/4
footprint RES_2512
footprint Model Name (Footprint not found)
pins: 1, 2

## RGB
designator D?  (value not drawn)
footprint RGB
pins: 1 A, 2 K

## RGB_5MM_LED
designator D?  (value not drawn)
footprint RGB_LED_5MM
pins: 1 G, 2 G, 3 R, 4 R

## RPot
designator R?  value 1K
Potentiometer; Sim Note: Enter the Resistance value and the set point into parameter fields.; Set Position: 0.5; Published: 8-Jun-2000; LatestRevisionDate: 17-Jul-2002; LatestRevisionNote: Re-released for DXP Platform.; PackageReference: VR5; Publisher: Altium Limited; PackageDescription: Variable Resistor, Thru-Hole; 3 Leads
footprint VR5 (Thru-Hole; 3 Leads)
footprint 卧式可调电阻
pins: 1 TOP, 2 BOT, 3 TAP
1 alternate drawing of the same symbol

## S6
designator U?
Geometry.Height: 12 mm; PCB DECAL: S6
footprint S6 (Footprint not found)
pins: 1 VBAT, 2 GND, 3 5V, 4 UART1_TXD, 5 UART1_RXD, 6 SPI_CS/GPIO_10, 7 SPI_CLK/GPIO_8, 8 SPI_DO/GPIO_11, 9 SPI_DI/GPIO_12, 10 VDDIO, 11 UART1_CTS/GPIO_3, 12 GND, 13 UART1_RTS/GPIO_2, 14 SPEAKER+, 15 SPEAKER-, 16 UART1_DTR/GPIO_29, 17 ADC, 18 PWRKEY, 19 RESET, 20 HOST_RXD, 21 HOST_TXD, 22 UART2_RXD/GPIO_4/LPG, 23 UART2_TXD/GPIO_5/PWM, 24 UART2_RTS/GPIO_6/I2C3_SCL, 25 UART2_CTS/GPIO_7/I2C3_SDA, 26 GND

## SD卡槽
designator SD?  (value not drawn)
pins: 1 DATA1, 2 CD/SDTA3, 3 CMD, 4 VDD, 5 CLK, 6 VSS, 7 DAT0, 8 DAT1

## shumaguan2
designator *
footprint shumaguan2
pins: 1 c "Digits (1&2) Cathode", 2 DP "Digits (1&2) Cathode", 3 e "Digits (1&2) Cathode", 4 d "Digits (1&2) Cathode", 5 g "Digits (1&2) Cathode", 6 f "Digits (1&2) Cathode", 7 A2 "Common Anode", 8 A1 "Common Anode", 9 b "Digits (1&2) Cathode", 10 a "Digits (1&2) Cathode"
text: DIG1; DIG2

## shumaguan3
designator D?, comment LED  (value not drawn)
footprint SM3
footprint SMG5.6
pins: 1 e "Digits (1-4) e Anode", 2 d "Digits (1-4) d Anode", 3 DP "Digits (2,3) DP Anode", 4 c "Digits (1-4) c Anode", 5 g "Digits (1-4) g Anode", 7 b "Digits (1-4) b Anode", 8 K3 "Digit 3 Common Cathode", 9 K2 "Digit 2 Common Cathode", 10 f "Digits (1-4) f Anode", 11 a "Digits (1-4) a Anode", 12 K1 "Digit 1 Common Cathode"
text: DIG1; DIG2; DIG3

## shumaguan4
designator *
footprint shumaguan4
pins: 1 e "Digits (1-4) e Anode", 2 d "Digits (1-4) d Anode", 3 DP "Digits (2,3) DP Anode", 4 c "Digits (1-4) c Anode", 5 g "Digits (1-4) g Anode", 6 K4 "Digit 4 Common Cathode", 7 b "Digits (1-4) b Anode", 8 K3 "Digit 3 Common Cathode", 9 K2 "Digit 2 Common Cathode", 10 f "Digits (1-4) f Anode", 11 a "Digits (1-4) a Anode", 12 K1 "Digit 1 Common Cathode"
text: DIG1; DIG2; DIG3; DIG4

## SIM-CAF99-06183-1503
designator J?
footprint SIM
pins: 1 IO, 2 VPP, 3 GND, 4 VCC, 5 RST, 6 CLK

## SIM-CAH99-06183-1501
designator J?
SIM卡座;8PIN;掀盖式;24.60*17.70*1.80mm;ROHS; Manufacture 1: 乾德电子(原良泽 Linkconn);; Geometry.Height: 1.8mm; Serial Number: 81300000050; Manufacture 1 P/N: CAH99-06183-1501; PCB DECAL: SIM-CAH99-06183-1501
footprint SIM-CAH99-06183-1501
pins: 1 IO, 2 VPP, 3 GND, 4 VCC, 5 RST, 6 CLK

## SMA-KWE
designator J?
footprint SMA-KE
pins: 2 ANT, 3 1 hidden to GND, 4 3 hidden to GND, 5 4 hidden to GND, 6 5 hidden to GND

## SMAVERT
designator TX?
SMA Vertical Female Connector; Manufacturer: TE Connectivity; Manufacturer Part Number: 5-1814832-1; Value: 5-1814832-1; PCB DECAL: SMA-V; Distributor: Digikey; Distributor Part Number: A97594-ND; Package: Through Hole; RoHS: RoHS Compliant; Type: 5-1814832-1
footprint SMA-V
footprint IPEX
pins: 1, 2

## SS14
designator D?  (value not drawn)
Schottky Diode;40V;1A/0.45V;PMDS;5.0*2.6*2.0mm;ROHS; Manufacture 1: Rohm; Geometry.Height: 2.0mm; Serial Number: 812600000141; PCB DECAL: DO-214AC; Manufacture 1 P/N: SS14
footprint DO-214AC
pins: 1, 2

## STC8F2K08S2
designator U?
footprint TSSOP16_M (TSOP, 16-Leads, Body 5x4.4mm, Pitch 0.65mm, IPC Low Density)
footprint TSSOP20
pins: 1 T2/SS/P1.2 (io), 2 T2CLKO/MOSI/P1.3 (io), 3 I2CSDA/MISO/P1.4 (io), 4 I2CSCL/SCLK/P1.5 (io), 5 MCLKO_2/XTALO/RxD_3/P1.6 (io), 6 XTALI/TxD_3/P1.7 (io), 7 MCLKO/RST/P5.4 (io), 8 Vcc (power), 9 P5.5 (io), 10 Gnd (power), 11 P3.0/RxD/INT4 (io), 12 P3.1/TxD (io), 13 P3.2/INT0/SCLK_4/I2CSCL_4 (io), 14 P3.3/INT1/MISO_4/I2CSDA_4 (io), 15 P3.4/T0/T1CLKO/MOSI_4/CMPO (io), 16 P3.5/T1/T0CLKO/SS_4 (io), 17 P3.6/INT2/RxD_2/CMP- (io), 18 P3.7/CMP+/INT3/TxD_2 (io), 19 P1.0/RxD2 (io), 20 P1.1/TxD2 (io)

## STC15F100W
designator U?
footprint SOP8LM386
pins: 1 MCLKO/~{INT2}/T0/RST/P3.4 (io), 2 Vcc (power), 3 ~{INT3}/T0CLKO/P3.5 (io), 4 Gnd (power), 5 P3.0/~{INT4}/T2CLKO (io), 6 P3.1/T2 (io), 7 P3.2/INT0 (io), 8 P3.3/INT1/RSTOUT_LOW (io)

## STC15F408AD
designator U?
footprint QFP80P900X900X165_HS-33M (QFP, 32-Leads, Body 7.00x7.00mm, Pitch 0.80mm, Thermal Pad 0.00x0.00mm, IPC Low Density)
pins: 1 P1.0/ADC0/CCP1, 2 P1.1/ADC1/CCP0, 3 P1.2/ADC2/SS/ECI, 4 P1.3/ADC3/MOSI, 5 P1.4/ADC4/MISO, 6 P1.5/ADC5/SCLK, 7 P1.6/ADC6/RxD_3/XTAL2, 8 P1.7/ADC7/TxD_3/XTAL1, 9 P5.4/RST/MCLKO, 10 Vcc, 11 P5.5, 12 Gnd, 13 P3.0/RxD/~{INT4}/T2CLK0, 14 P3.1/TxD/T2, 15 P3.2/INT0, 16 P3.3/INT1, 17 ECI_2/T0/P3.4, 18 CCP0_2/T0CLK/P3.5, 19 CCP1_2/RxD_2/~{INT2}/P3.6, 20 CCP2_2/CCP2/TxD_2/~{INT3}/P3.7, 21 RSTOUT_LO~{W}/P2.0, 22 SCLK_2/P2.1, 23 MISO_2/P2.2, 24 MOSI_2/P2.3, 25 P2.4/ECI_3/SS_2, 26 P2.5/CCP0_3, 27 P2.5/CCP1_3, 28 P2.5/CCP2_3, 29 P0.0, 30 P0.1, 31 P0.2, 32 P0.3

## STM32F103RBT6
designator U2
STM32 ARM-based 32-bit MCU with 128 Kbytes Flash, 64-pin LQFP, Industrial Temperature; Published: 30-May-2008; DatasheetVersion: rev6, Mar-2008; PackageVersion: Mar-2008; PackageReference: LQFP64; Publisher: Altium Limited; PackageDescription: 64-Pin Low-Profile Quad Flat Pack, 10 x 10 mm Body, 0.5 mm Pitch (LQFP64); ComponentLink1Description: Manufacturer Link; ComponentLink1URL: www.st.com/stm32; ComponentLink2Description: Datasheet; ComponentLink2URL: http://www.st.com/stonline/products/literature/ds/13587.pdf
footprint LQFP64_N (Thin QFP, 64-Leads, Body 10x10mm, Pitch 0.5mm, IPC Medium Density)
footprint LQFP64_L (Thin QFP, 64-Leads, Body 10x10mm, Pitch 0.5mm, IPC High Density)
footprint LQFP64_M (Thin QFP, 64-Leads, Body 10x10mm, Pitch 0.5mm, IPC Low Density)
pins: 1 VBAT (power), 2 PC13-TAMPER-RTC (io), 3 PC14-OSC32_IN (io), 4 PC15-OSC32_OUT (io), 5 OSC_IN/PD0 (in), 6 OSC_OUT/PD1 (out), 7 NRST (io), 8 PC0 (io), 9 PC1 (io), 10 PC2 (io), 11 PC3 (io), 12 VSSA (power), 13 VDDA (power), 14 PA0-WKUP (io), 15 PA1 (io), 16 PA2 (io), 17 PA3 (io), 18 VSS_4 (power), 19 VDD_4 (power), 20 PA4 (io), 21 PA5 (io), 22 PA6 (io), 23 PA7 (io), 24 PC4 (io), 25 PC5 (io), 26 PB0 (io), 27 PB1 (io), 28 PB2/BOOT1 (io), 29 PB10 (io), 30 PB11 (io), 31 VSS_1 (power), 32 VDD_1 (power), 33 PB12 (io), 34 PB13 (io), 35 PB14 (io), 36 PB15 (io), 37 PC6 (io), 38 PC7 (io), 39 PC8 (io), 40 PC9 (io), 41 PA8 (io), 42 PA9 (io), 43 PA10 (io), 44 PA11 (io), 45 PA12 (io), 46 PA13/JTMS/SWDIO (io), 47 VSS_2 (power), 48 VDD_2 (power), 49 PA14/JTCK/SWCLK (io), 50 PA15/JTDI (io), 51 PC10 (io), 52 PC11 (io), 53 PC12 (io), 54 PD2 (io), 55 PB3/JTDO (io), 56 PB4/JNTRST (io), 57 PB5 (io), 58 PB6 (io), 59 PB7 (io), 60 BOOT0 (in), 61 PB8 (io), 62 PB9 (io), 63 VSS_3 (power), 64 VDD_3 (power)

## SW6
designator *
footprint SW6
pins: 1, 2, 3, 4, 5, 6

## SW-2A
designator S?
footprint SW-2A
footprint SW贴片-3*6*2.5 (SMT LED; 2 Flat Leads)
pins: 1, 2

## SW-2A_1
designator K?  (value not drawn)
footprint SW-2贴片
footprint SW-2A
pins: 1, 2

## SW-6
designator S?  (value not drawn)
footprint SW-6
pins: 1, 2, 3, 4, 5, 6

## SW-DIP4
designator S?
DIP Switch; Published: 24-Mar-1999; LatestRevisionDate: 17-Jul-2002; LatestRevisionNote: Re-released for DXP Platform.; PackageReference: DIP-8; Publisher: Altium Limited
footprint DIP-8-KEY (DIP; 8 Leads; Row Spacing 7.62 mm; Pitch 2.54 mm)
pins: 1, 2, 3, 4, 5, 6, 7, 8

## SW-DIP8
designator S?
4009 Series DIP Switch, Raised actuator; Published: 24-Mar-1999; LatestRevisionDate: 17-Dec-2003; LatestRevisionNote: PCB Footprint replaced.; PackageReference: DIP-16-KEY; Publisher: Altium Limited; ComponentLink1Description: Manufacturer Link; ComponentLink1URL: http://www.oupiin.com/prodindx.html#Headers
footprint DIP-16-KEY (DIP; 16 Leads; Row Spacing 7.62 mm; Pitch 2.54 mm)
pins: 1, 2, 3, 4, 5, 6, 7, 8, 9, 10, 11, 12, 13, 14, 15, 16

## TB6612FNG
designator U?  (value not drawn)
footprint TB6612FNG (TSOP, 24-Leads, Body 8.25x5.60mm, Pitch 0.65mm, IPC Low Density)
pins: 1 A01, 2 A01, 3 PGND1, 4 PGND1, 5 A02, 6 A02, 7 B02, 8 B02, 9 PGND2, 10 PGND2, 11 B01, 12 B01, 13 VM2, 14 VM3, 15 PWMB, 16 BIN2, 17 BIN1, 18 GND, 19 STBY, 20 VCC, 21 AIN1, 22 AIN2, 23 PWMA, 24 VM1

## TRIODE-NPN-MMBT3904
designator Q?  (value not drawn)
Transistor;NPN;40V;200mA;SOT23;1.1mm;ROHS; Manufacture 1: 长电; Serial Number: 81232000008; PCB DECAL: SOT-23(MMBT3904); Geometry.Height: 1.1mm; Manufacture 1 P/N: MMBT3904
footprint SOT-23(MMBT3904)
pins: 1, 2, 3

## TVS
designator D?, comment 瞬态抑制二极管
footprint 0603AC
footprint 0805C
pins: 1 A, 2 K

## USB_公
designator U?, comment USB
footprint USB_A_DIP
pins: 1 VCC, 2 D-, 3 D+, 4 GND

## USB_母
designator U?  (value not drawn)
footprint USB_母
pins: 1 VCC, 2 D-, 3 D+, 4 GND

## UT3232G-P16-R
designator U?
footprint LC-TSSOP-16
pins: 1 C1+, 2 V+, 3 C1-, 4 C2+, 5 C2-, 6 V-, 7 DOUT2, 8 RIN2, 9 ROUT2, 10 DIN2, 11 DIN1, 12 ROUT1, 13 RIN1, 14 DOUT1, 15 GND, 16 Vcc

## WJ2EDGR-5.08-2P64R
designator U?
Geometry.Height: 8.3 mm; PCB DECAL: WJ2EDGR-5.08-2P64R
footprint WJ2EDGR-5.08-2P64R
pins: 1, 2

## XH-10AW-2PIN
designator U?
Geometry.Height: 5.9 mm; PCB DECAL: XH-10AW-2PIN
footprint XH-10AW-2PIN
pins: 1, 2

## XH-10AW-3PIN
designator U?
Geometry.Height: 5.9 mm; PCB DECAL: XH-10AW-3PIN
footprint XH-10AW-3PIN
pins: 1, 2, 3

## XH-10AW-4PIN
designator U?
Geometry.Height: 5.9 mm; PCB DECAL: XH-10AW-4PIN
footprint XH-10AW-4PIN
pins: 1, 2, 3, 4

## XT60
designator POW  (value not drawn)
footprint XT60
pins: 0 GND, 1 VCC

## XTAL
designator Y?
footprint XTAL 直插
footprint XTAL-圆柱形
footprint XTAL-圆柱侧躺
pins: 1, 2

## XTAL_1
designator X?, comment XTAL  (value not drawn)
DIP
footprint XTAL-DIP (DIP)
footprint XTAL-圆柱侧躺
footprint XTAL-圆柱
footprint TXAL-贴片
pins: 1 OSC1, 2 OSC2

## XTAL_5032
designator *
footprint XTAL_5032
pins: 1, 2, 3, 4

## 二极管
designator D?  (value not drawn)
footprint DO-214AC
pins: 1 A, 2 K

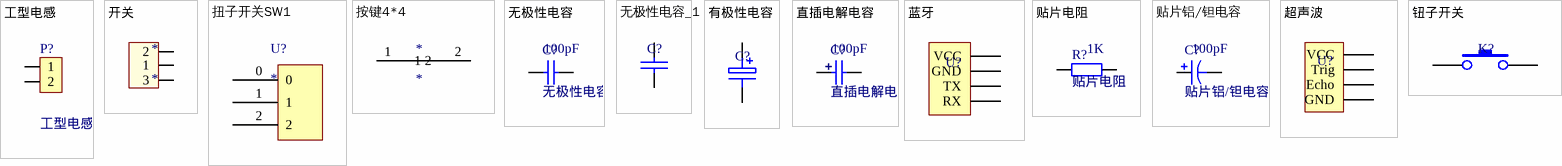
[diagram p4: symbols 工型电感 to 钮子开关]

## 工型电感
designator P?
LatestRevisionDate: 17-Jul-2002; LatestRevisionNote: Re-released for DXP Platform.; Publisher: Altium Limited
footprint 工型电感6*8-10MH
pins: 1, 2

## 开关
designator *
footprint 开关
pins: 1, 2, 3

## 扭子开关SW1
designator U?
footprint 扭子开关SW1白色
footprint 扭子开关SW1红色
pins: 0, 1, 2

## 按键4*4
designator *
footprint 按键4*4
pins: 1, 2

## 无极性电容
designator C?  value 100pF
Capacitor; Published: 8-Jun-2000; LatestRevisionDate: 17-Jul-2002; LatestRevisionNote: Re-released for DXP Platform.; PackageReference: RAD-0.3; Publisher: Altium Limited; PackageDescription: Radial Cap, Thru-Hole; 2 Leads; 0.3 in Pin Spacing
footprint 0603AC
footprint 0805C
footprint 1206C (3216/A型)
footprint 6.8nf电容
footprint cap-瓷片
pins: 1, 2

## 无极性电容_1
designator C?, comment 无极性电容  (value not drawn)
30pF
footprint CAP-瓷片 (30pF)
pins: 1, 2

## 有极性电容
designator C?  (value not drawn)
10uF
footprint CAP-4X7X1.5 (10uF)
footprint Cap0805
pins: 1, 2 E

## 直插电解电容
designator C?  value 100pF
Capacitor; Published: 8-Jun-2000; LatestRevisionDate: 17-Jul-2002; LatestRevisionNote: Re-released for DXP Platform.; PackageReference: RAD-0.3; Publisher: Altium Limited; PackageDescription: Radial Cap, Thru-Hole; 2 Leads; 0.3 in Pin Spacing
footprint CAP-4X7X1.5
footprint CAP-5X11X2 (RB.1/.2)
footprint CAP-6.3X11X2.5
footprint CAP-8X11.5X3.5
footprint CAP-10X12.5X5 (RB.2/.4)
pins: 1, 2

## 蓝牙
designator U?  (value not drawn)
footprint 蓝牙
pins: 1 VCC, 2 GND, 3 TX, 4 RX

## 贴片电阻
designator R?  value 1K
Resistor; Published: 8-Jun-2000; LatestRevisionDate: 17-Jul-2002; LatestRevisionNote: Re-released for DXP Platform.; PackageReference: AXIAL-0.4; Publisher: Altium Limited; PackageDescription: Axial Device, Thru-Hole; 2 Leads; 0.4 in Pin Spacing
footprint 0603AR
footprint 0805R
pins: 1, 2

## 贴片铝/钽电容
designator C?  value 100pF
Polarized Capacitor (Axial); Published: 8-Jun-2000; LatestRevisionDate: 17-Jul-2002; LatestRevisionNote: Re-released for DXP Platform.; PackageReference: POLAR0.8; Publisher: Altium Limited; PackageDescription: Polarized Capacitor; 2 Leads
footprint C8X8MM
footprint CAPM-A-3216X18N (Molded Capacitor, 2-Leads, Body 3.20x1.60mm, IPC Medium Density)
footprint CAPM-B-3528X21N (Molded Capacitor, 2-Leads, Body 3.50x2.80mm, IPC Medium Density)
footprint CAPM-C-6032X28N (Molded Capacitor, 2-Leads, Body 6.00x3.20mm, IPC Medium Density)
footprint CAPM-D-7343X31N (Molded Capacitor, 2-Leads, Body 7.30x4.30mm, IPC Medium Density)
footprint CAPM-E-7343X43N (Molded Capacitor, 2-Leads, Body 7.30x4.30mm, IPC Medium Density)
footprint CAPM-V-7343X20N (Molded Capacitor, 2-Leads, Body 7.30x4.30mm, IPC Medium Density)
footprint SMD-EC-F3
footprint SMD-EC-F4
footprint SMD-EC-F5
footprint SMD-EC-F6.3
footprint SMD-EC-F8
footprint SMD-EC-F10
footprint SMD-EC-F12.5
footprint SMD-EC-F16
pins: 1, 2
1 alternate drawing of the same symbol

## 超声波
designator U?  (value not drawn)
footprint 超声波
pins: 1 VCC, 2 Trig, 3 Echo, 4 GND

## 钮子开关
designator K?
footprint 钮子开关
pins: 1, 2